# Altium footprint library PCB2.PcbLib: 13 footprints
Each footprint in its own frame and in the unit in brackets; x right, y up, seen from the top. Pads: shape width x height; smd on the part's side, far side on the other; paste and mask are expansions set on the pad; w line width, h text height; cw(c..) or ccw(c..) is an arc to the next point about the centre after c.
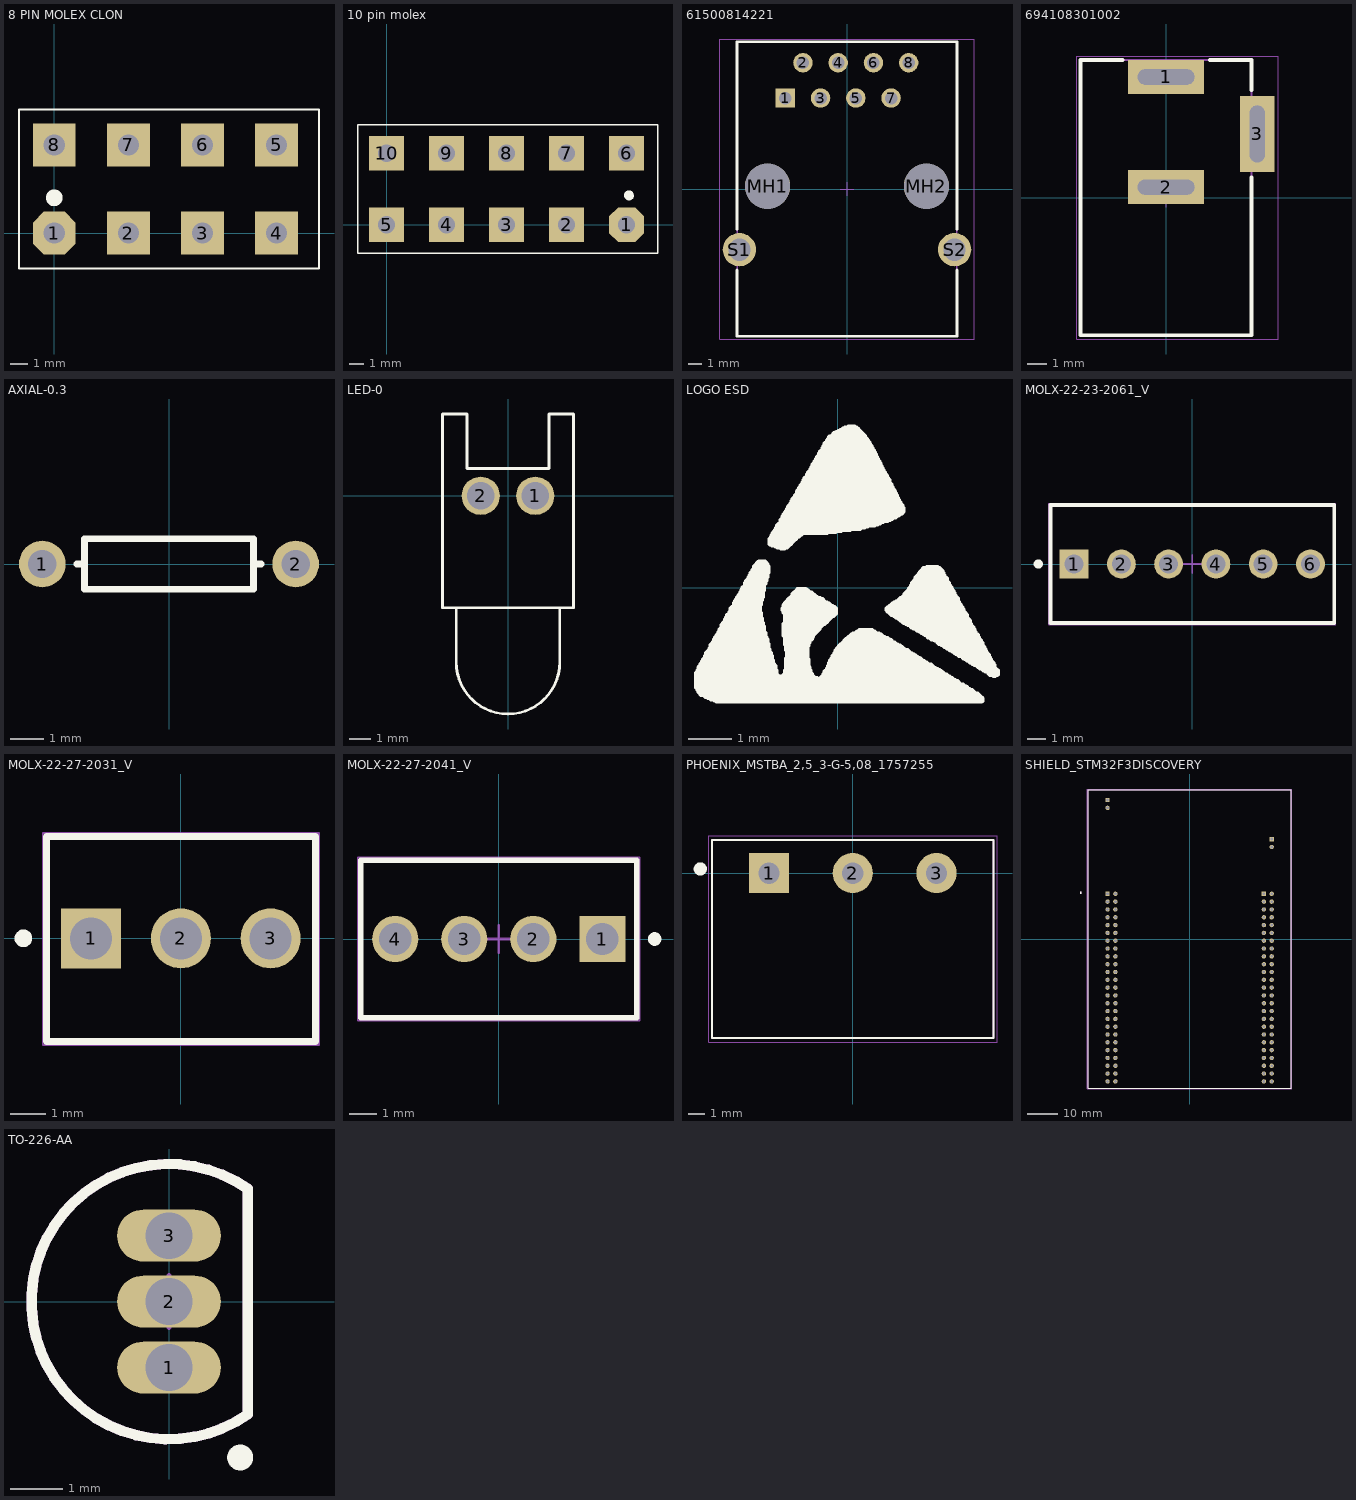
[diagram p0: the footprints below, top view; thin cyan lines are the x and y axes]

## 8 PIN MOLEX CLON [mm]
pads (8):
  oct 2.43x2.43 hole 1.2 square: 1(0,0)
  rect 2.43x2.43 hole 1.2 square: 2(4.2,0) 3(8.4,0) 4(12.6,0) 5(12.6,5) 6(8.4,5) 7(4.2,5) 8(0,5)
Top Overlay:
  circle w0.5: c0,2 r0.224
  lines w0.1: -2,-2 15,-2 15,7 -2,7 -2,-2
3D body "conn2(8 pin).STEP": height 11, standoff -3.7, extent -2.95,-13.5 15.15,5.5

## 10 pin molex [mm]
pads (10):
  oct 2.43x2.43 hole 1.2 square: 1(16.8,0)
  rect 2.43x2.43 hole 1.2 square: 2(12.6,0) 3(8.4,0) 4(4.2,0) 5(0,0) 6(16.8,5) 7(12.6,5) 8(8.4,5) 9(4.2,5) 10(0,5)
Top Overlay:
  lines w0.1: -2,-2 19,-2 19,7 -2,7 -2,-2
  lines w0.5: 17.046,2.121 ccw(c16.975,2.05) 17.075,2.05
3D body "conn1(10 pin).STEP": height 11, standoff -3.7, extent -3.1,-13.6 19.3,5.4

## 61500814221 [mm]
pads (12):
  rect 1.4x1.4 hole 0.9: 1(-4.445,6.55)
  round 1.4 hole 0.9: 2(-3.175,9.09) 3(-1.905,6.55) 4(-0.635,9.09) 5(0.635,6.55) 6(1.905,9.09) 7(3.175,6.55) 8(4.445,9.09)
  round 3.25 hole 3.25 unplated: MH1(-5.715,0.2) MH2(5.715,0.2)
  round 2.4 hole 1.6: S1(-7.75,-4.37) S2(7.75,-4.37)
Top Overlay:
  lines w0.2: -7.92,-5.84 -7.92,-10.6 7.92,-10.6 7.92,-5.84 ; -7.92,-2.9 -7.92,10.6 7.92,10.6 7.92,-2.9
Mechanical 13:
  lines w0.1: -7.92,-10.6 7.92,-10.6 7.92,10.6 -7.92,10.6 -7.92,-10.6
Mechanical 15:
  lines w0.05: -0.5,0 0.5,0 ; 0,-0.5 0,0.5 ; -9.15,-10.8 -9.15,10.8 9.15,10.8 9.15,-10.8 -9.15,-10.8
3D body "61500814221 (rev1).stp": height 13.7, standoff -3.9, extent -7.9,-10.6 7.9,10.6

## 694108301002 [mm]
pads (3):
  rect 4x1.8 hole 0.8 slot 3 at 0 deg: 1(0,6.35) 2(0,0.55)
  rect 1.8x4 hole 0.8 slot 3 at 90 deg: 3(4.8,3.35)
Top Overlay:
  lines w0.2: -2.3,7.25 -4.5,7.25 -4.5,-7.25 4.5,-7.25 4.5,1.05 ; 2.3,7.25 4.5,7.25 4.5,5.65
Mechanical 13:
  lines w0.1: -4.5,-7.25 4.5,-7.25 4.5,7.25 -4.5,7.25 -4.5,-7.25
Mechanical 15:
  lines w0.05: -0.5,0 0.5,0 ; 0,-0.5 0,0.5 ; -4.7,-7.45 5.9,-7.45 5.9,7.45 -4.7,7.45 -4.7,-7.45
3D body "694108301002.stp": height 10.75, standoff -3.75, extent -4.5,-7.25 5,7.25

## AXIAL-0.3 [mm]
pads (2):
  round 1.4 hole 0.85: 1(-3.81,0) 2(3.81,0)
Top Overlay:
  lines w0.2: -2.769,0 -2.54,0 ; 2.769,0 2.54,0 ; 2.54,0 2.54,-0.762 -2.54,-0.762 -2.54,0.762 2.54,0.762 2.54,0

## LED-0 [mil]
pads (2):
  round 70 hole 50: 1(50,0) 2(-50,0)
Top Overlay:
  lines w5: -95,-205 -95,-305 ccw(c0,-305) 95,-305 95,-205 ; -120,-205 120,-205 120,150 75,150 75,50 -75,50 -75,150 -120,150 -120,-205

## LOGO ESD [mil]
Top Overlay:
  drawing of 457 lines, arcs and shapes, not listed

## MOLX-22-23-2061_V [mm]
pads (6):
  rect 1.55x1.55 hole 1.02: 1(-6.35,0)
  round 1.55 hole 1.02: 2(-3.81,0) 3(-1.27,0) 4(1.27,0) 5(3.81,0) 6(6.35,0)
Top Overlay:
  circle w0.25: c-8.27,0 r0.125
  lines w0.2: -7.62,-3.175 -7.62,3.175 7.62,3.175 7.62,-3.175 -7.62,-3.175
Mechanical 13:
  lines w0.1: -7.62,-3.175 -7.62,3.175 7.62,3.175 7.62,-3.175 -7.62,-3.175
Mechanical 15:
  lines w0.05: -7.72,-3.275 -7.72,3.275 7.72,3.275 7.72,-3.275 -7.72,-3.275
  lines w0.1: -0.5,0 0.5,0 ; 0,-0.5 0,0.5
3D body "022232061.stp": height 10.67, standoff -3.56, extent -7.544,-3.251 7.544,3.099

## MOLX-22-27-2031_V [mm]
pads (3):
  rect 1.7x1.7 hole 1.19 paste+0: 1(-2.54,0)
  round 1.7 hole 1.19 paste+0: 2(0,0) 3(2.54,0)
Top Overlay:
  circle w0.25: c-4.46,0 r0.125
  lines w0.2: -3.81,-2.92 -3.81,2.88 3.81,2.88 3.81,-2.92 -3.81,-2.92
Mechanical 13:
  lines w0.1: -3.81,-2.92 3.81,-2.92 3.81,2.88 -3.81,2.88 -3.81,-2.92
Mechanical 15:
  lines w0.05: -3.91,-3.02 3.91,-3.02 3.91,2.98 -3.91,2.98 -3.91,-3.02
  lines w0.1: -0.5,0 0.5,0 ; 0,-0.5 0,0.5
3D body "022272031.stp": height 11.71, standoff -3.55, extent -3.81,-2.92 3.81,2.88

## MOLX-22-27-2041_V [mm]
pads (4):
  rect 1.7x1.7 hole 1.19: 1(3.81,0)
  round 1.7 hole 1.19: 2(1.27,0) 3(-1.27,0) 4(-3.81,0)
Top Overlay:
  circle w0.25: c5.73,0 r0.125
  lines w0.2: -5.08,-2.9 -5.08,2.9 5.08,2.9 5.08,-2.9 -5.08,-2.9
Mechanical 13:
  lines w0.1: -5.08,-2.9 -5.08,2.9 5.08,2.9 5.08,-2.9 -5.08,-2.9
Mechanical 15:
  lines w0.05: -5.18,-3 5.18,-3 5.18,3 -5.18,3 -5.18,-3
  lines w0.1: -0.5,0 0.5,0 ; 0,-0.5 0,0.5
3D body "022272041.stp": height 11.7, standoff -3.56, extent -5.08,-2.9 5.08,2.9

## PHOENIX_MSTBA_2,5_3-G-5,08_1757255 [mm]
pads (3):
  rect 2.43x2.43 hole 1.3: 1(-5.08,0)
  round 2.43 hole 1.3: 2(0,0) 3(5.08,0)
Top Overlay:
  circle w0.4: c-9.25,0.25 r0.2
  lines w0.127: -8.54,-10 -8.54,2 8.54,2 8.54,-10 -8.54,-10
Mechanical 4:
  lines w0.127: -8.54,-10 8.54,-10 ; -8.54,-10 -8.54,2 ; -8.54,-10 8.54,-10 ; -8.54,-10 -8.54,2 ; -8.54,2 8.54,2 ; -8.54,2 8.54,2 ; 8.54,-10 8.54,2 ; 8.54,-10 8.54,2
Mechanical 16:
  lines w0.05: -8.75,-10.25 -8.75,2.25 8.75,2.25 8.75,-10.25 -8.75,-10.25
3D body "12.stp": height 8.6, standoff -3.5, extent -7.62,-9.938 7.62,2.064

## SHIELD_STM32F3DISCOVERY [mm]
pads (104):
  rect 1.408x1.408 hole 0.9: 1(-26.67,14.68) 51(24.13,14.68) 101(-26.67,45.16) 103(26.67,32.46)
  round 1.408 hole 0.9: 2(-24.13,14.68) 3(-26.67,12.14) 4(-24.13,12.14) 5(-26.67,9.6) 6(-24.13,9.6) 7(-26.67,7.06) 8(-24.13,7.06) 9(-26.67,4.52) 10(-24.13,4.52) 11(-26.67,1.98) 12(-24.13,1.98) 13(-26.67,-0.56) 14(-24.13,-0.56) 15(-26.67,-3.1) 16(-24.13,-3.1) 17(-26.67,-5.64) 18(-24.13,-5.64) 19(-26.67,-8.18) 20(-24.13,-8.18) 21(-26.67,-10.72) 22(-24.13,-10.72) 23(-26.67,-13.26) 24(-24.13,-13.26) 25(-26.67,-15.8) 26(-24.13,-15.8) 27(-26.67,-18.34) 28(-24.13,-18.34) 29(-26.67,-20.88) 30(-24.13,-20.88) 31(-26.67,-23.42) 32(-24.13,-23.42) 33(-26.67,-25.96) 34(-24.13,-25.96) 35(-26.67,-28.5) 36(-24.13,-28.5) 37(-26.67,-31.04) 38(-24.13,-31.04) 39(-26.67,-33.58) 40(-24.13,-33.58) 41(-26.67,-36.12) 42(-24.13,-36.12) 43(-26.67,-38.66) 44(-24.13,-38.66) 45(-26.67,-41.2) 46(-24.13,-41.2) 47(-26.67,-43.74) 48(-24.13,-43.74) 49(-26.67,-46.28) 50(-24.13,-46.28) 52(26.67,14.68) 53(24.13,12.14) 54(26.67,12.14) 55(24.13,9.6) 56(26.67,9.6) 57(24.13,7.06) 58(26.67,7.06) 59(24.13,4.52) 60(26.67,4.52) 61(24.13,1.98) 62(26.67,1.98) 63(24.13,-0.56) 64(26.67,-0.56) 65(24.13,-3.1) 66(26.67,-3.1) 67(24.13,-5.64) 68(26.67,-5.64) 69(24.13,-8.18) 70(26.67,-8.18) 71(24.13,-10.72) 72(26.67,-10.72) 73(24.13,-13.26) 74(26.67,-13.26) 75(24.13,-15.8) 76(26.67,-15.8) 77(24.13,-18.34) 78(26.67,-18.34) 79(24.13,-20.88) 80(26.67,-20.88) 81(24.13,-23.42) 82(26.67,-23.42) 83(24.13,-25.96) 84(26.67,-25.96) 85(24.13,-28.5) 86(26.67,-28.5) 87(24.13,-31.04) 88(26.67,-31.04) 89(24.13,-33.58) 90(26.67,-33.58) 91(24.13,-36.12) 92(26.67,-36.12) 93(24.13,-38.66) 94(26.67,-38.66) 95(24.13,-41.2) 96(26.67,-41.2) 97(24.13,-43.74) 98(26.67,-43.74) 99(24.13,-46.28) 100(26.67,-46.28) 102(-26.67,42.62) 104(26.67,29.92)
Top Overlay:
  circle w0.4: c-35.4,15 r0.2
  lines w0.127: -33,-48.5 33,-48.5 33,48.5 -33,48.5 -33,-48.5
Mechanical 4:
  circle w0.4: c-35.4,15 r0.2
  circle w0.4: c-35.4,15 r0.2
  lines w0.127: -33,-48.5 33,-48.5 ; -33,-48.5 -33,48.5 ; -33,-48.5 33,-48.5 ; -33,-48.5 -33,48.5 ; -33,48.5 33,48.5 ; -33,48.5 33,48.5 ; 33,-48.5 33,48.5 ; 33,-48.5 33,48.5
Mechanical 16:
  lines w0.05: -33.25,-48.75 33.25,-48.75 33.25,48.75 -33.25,48.75 -33.25,-48.75

## TO-226-AA [mm]
pads (3):
  oval 2x1 hole 0.9: 1(0,-1.27) 2(0,0) 3(0,1.27)
Top Overlay:
  circle w0.25: c1.371,-3.003 r0.125
  lines w0.2: 1.52,-2.171 cw(c0,0) 1.52,2.171 1.52,-2.171
Mechanical 13:
  lines w0.2: 1.52,-2.171 cw(c0,0) 1.52,2.171 1.52,-2.171
Mechanical 15:
  lines w0.1: -0.5,0 0.5,0 ; 0,-0.5 0,0.5
3D body: height 5.33, standoff 0, extent -2.651,-2.661 1.52,2.661